# EAGLE library part 87264-26 (library untitled)
RECEPTACAL
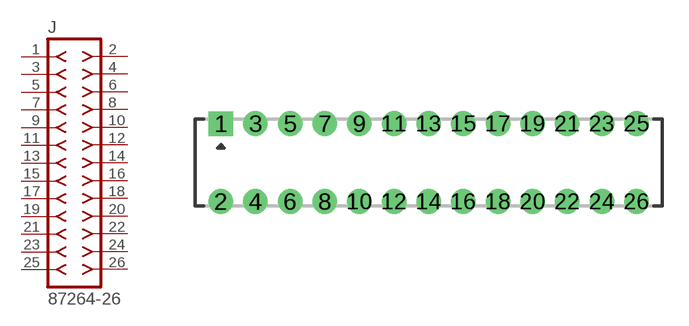
[diagram p214: symbol with the pads of 87264-26; footprint 87264-26]

Designator prefix J

## 87264-26  [87264-26]
1  1  pas
2  2  pas
3  3  pas
4  4  pas
5  5  pas
6  6  pas
7  7  pas
8  8  pas
9  9  pas
10  10  pas
11  11  pas
12  12  pas
13  13  pas
14  14  pas
15  15  pas
16  16  pas
17  17  pas
18  18  pas
19  19  pas
20  20  pas
21  21  pas
22  22  pas
23  23  pas
24  24  pas
25  25  pas
26  26  pas

## Footprint 87264-26 (pad centres in mm)
RECEPTACAL Dual Row, Side Entry
drill 0.914 square: 1 -12,2.25
drill 0.914 round: 2 -12,-2.25; 3 -10,2.25; 4 -10,-2.25; 5 -8,2.25; 6 -8,-2.25; 7 -6,2.25; 8 -6,-2.25; 9 -4,2.25; 10 -4,-2.25; 11 -2,2.25; 12 -2,-2.25; 13 0,2.25; 14 0,-2.25; 15 2,2.25; 16 2,-2.25; 17 4,2.25; 18 4,-2.25; 19 6,2.25; 20 6,-2.25; 21 8,2.25; 22 8,-2.25; 23 10,2.25; 24 10,-2.25; 25 12,2.25; 26 12,-2.25